# Altium schematic symbol library 35SVPD8R2M.SchLib: 1 symbol
Pins are listed as number, name and electrical type; pins without a type are passive.

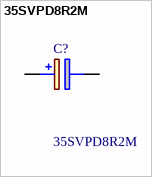
[diagram p0: symbol 35SVPD8R2M]

## 35SVPD8R2M
designator C?
Aluminum Organic Polymer Capacitors 35volt 8.2uF 70mOhm 8x7mm OS-CON; Manufacturer_Name: Panasonic; Geometry.Height: 7mm; Mouser Part Number: 667-35SVPD8R2M; Mouser Price/Stock: https://www.mouser.co.uk/ProductDetail/Panasonic/35SVPD8R2M?qs=LkACrQhHtvBb%2FZ1Chbx9Cg%3D%3D; Manufacturer_Part_Number: 35SVPD8R2M; Datasheet Link: http://industrial.panasonic.com/cdbs/www-data/pdf/AAB8000/AAB8000C181.pdf
footprint 16SVF270M
pins: 1 +, 2 -